# Altium footprint library DIP28H.PcbLib: 1 footprints
Each footprint in its own frame and in the unit in brackets; x right, y up, seen from the top. Pads: shape width x height; smd on the part's side, far side on the other; paste and mask are expansions set on the pad; w line width, h text height; cw(c..) or ccw(c..) is an arc to the next point about the centre after c.
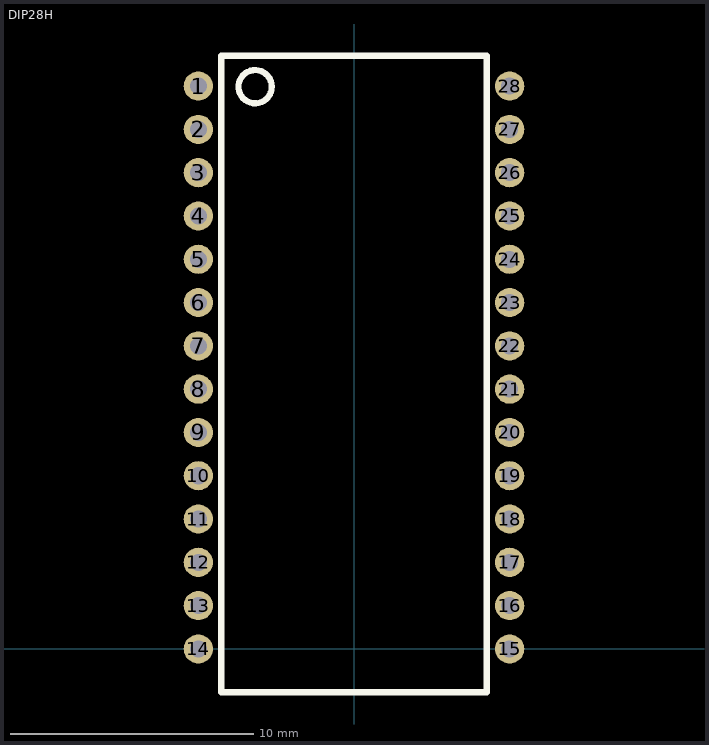
[diagram p0: the footprint, top view; thin cyan lines are the x and y axes]

## DIP28H [mm]
pads (28):
  round 1.2 hole 0.7: 1(-6.4,23.14) 2(-6.4,21.36) 3(-6.4,19.58) 4(-6.4,17.8) 5(-6.4,16.02) 6(-6.4,14.24) 7(-6.4,12.46) 8(-6.4,10.68) 9(-6.4,8.9) 10(-6.4,7.12) 11(-6.4,5.34) 12(-6.4,3.56) 13(-6.4,1.78) 14(-6.4,0) 15(6.4,0) 16(6.4,1.78) 17(6.4,3.56) 18(6.4,5.34) 19(6.4,7.12) 20(6.4,8.9) 21(6.4,10.68) 22(6.4,12.46) 23(6.4,14.24) 24(6.4,16.02) 25(6.4,17.8) 26(6.4,19.58) 27(6.4,21.36) 28(6.4,23.14)
Top Overlay:
  circle w0.254: c-4.064,23.114 r0.684
  lines w0.254: -5.461,-1.778 -5.461,24.384 5.461,24.384 5.461,-1.778 -5.461,-1.778
3D body "DIP28H.step": height 4.01, standoff -4, extent -6.55,-1.818 6.55,24.932